# Altium footprint library BGA900.PcbLib: 3 footprints (part 1 of 2)
Each footprint in its own frame and in the unit in brackets; x right, y up, seen from the top. Pads: shape width x height; smd on the part's side, far side on the other; paste and mask are expansions set on the pad; w line width, h text height; cw(c..) or ccw(c..) is an arc to the next point about the centre after c.
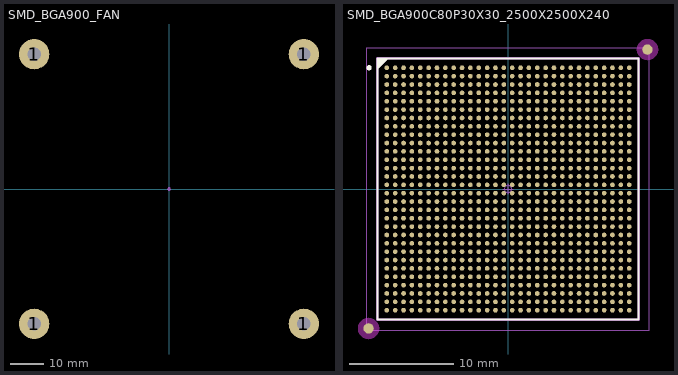
[diagram p0: the footprints below, top view; thin cyan lines are the x and y axes]

## SMD_BGA900_FAN [mm]
pads (4):
  round 9 hole 4: 1(-40,-40) 1(-40,40) 1(40,-40) 1(40,40)
Mechanical 15:
  circle w0.05: c0,0 r0.35
  lines w0.05: -0.5,0 0.5,0 ; 0,-0.5 0,0.5

## SMD_BGA900C80P30X30_2500X2500X240 [mm]
height 2.4
pads (902):
  round 0.45 smd mask+0: A1(-11.6,11.6) A2(-10.8,11.6) A3(-10,11.6) A4(-9.2,11.6) A5(-8.4,11.6) A6(-7.6,11.6) A7(-6.8,11.6) A8(-6,11.6) A9(-5.2,11.6) A10(-4.4,11.6) A11(-3.6,11.6) A12(-2.8,11.6) A13(-2,11.6) A14(-1.2,11.6) A15(-0.4,11.6) A16(0.4,11.6) A17(1.2,11.6) A18(2,11.6) A19(2.8,11.6) A20(3.6,11.6) A21(4.4,11.6) A22(5.2,11.6) A23(6,11.6) A24(6.8,11.6) A25(7.6,11.6) A26(8.4,11.6) A27(9.2,11.6) A28(10,11.6) A29(10.8,11.6) A30(11.6,11.6) AA1(-11.6,-4.4) AA2(-10.8,-4.4) AA3(-10,-4.4) AA4(-9.2,-4.4) AA5(-8.4,-4.4) AA6(-7.6,-4.4) AA7(-6.8,-4.4) AA8(-6,-4.4) AA9(-5.2,-4.4) AA10(-4.4,-4.4) AA11(-3.6,-4.4) AA12(-2.8,-4.4) AA13(-2,-4.4) AA14(-1.2,-4.4) AA15(-0.4,-4.4) AA16(0.4,-4.4) AA17(1.2,-4.4) AA18(2,-4.4) AA19(2.8,-4.4) AA20(3.6,-4.4) AA21(4.4,-4.4) AA22(5.2,-4.4) AA23(6,-4.4) AA24(6.8,-4.4) AA25(7.6,-4.4) AA26(8.4,-4.4) AA27(9.2,-4.4) AA28(10,-4.4) AA29(10.8,-4.4) AA30(11.6,-4.4) AB1(-11.6,-5.2) AB2(-10.8,-5.2) AB3(-10,-5.2) AB4(-9.2,-5.2) AB5(-8.4,-5.2) AB6(-7.6,-5.2) AB7(-6.8,-5.2) AB8(-6,-5.2) AB9(-5.2,-5.2) AB10(-4.4,-5.2) AB11(-3.6,-5.2) AB12(-2.8,-5.2) AB13(-2,-5.2) AB14(-1.2,-5.2) AB15(-0.4,-5.2) AB16(0.4,-5.2) AB17(1.2,-5.2) AB18(2,-5.2) AB19(2.8,-5.2) AB20(3.6,-5.2) AB21(4.4,-5.2) AB22(5.2,-5.2) AB23(6,-5.2) AB24(6.8,-5.2) AB25(7.6,-5.2) AB26(8.4,-5.2) AB27(9.2,-5.2) AB28(10,-5.2) AB29(10.8,-5.2) AB30(11.6,-5.2) AC1(-11.6,-6) AC2(-10.8,-6) AC3(-10,-6) AC4(-9.2,-6) AC5(-8.4,-6) AC6(-7.6,-6) AC7(-6.8,-6) AC8(-6,-6) AC9(-5.2,-6) AC10(-4.4,-6) AC11(-3.6,-6) AC12(-2.8,-6) AC13(-2,-6) AC14(-1.2,-6) AC15(-0.4,-6) AC16(0.4,-6) AC17(1.2,-6) AC18(2,-6) AC19(2.8,-6) AC20(3.6,-6) AC21(4.4,-6) AC22(5.2,-6) AC23(6,-6) AC24(6.8,-6) AC25(7.6,-6) AC26(8.4,-6) AC27(9.2,-6) AC28(10,-6) AC29(10.8,-6) AC30(11.6,-6) AD1(-11.6,-6.8) AD2(-10.8,-6.8) AD3(-10,-6.8) AD4(-9.2,-6.8) AD5(-8.4,-6.8) AD6(-7.6,-6.8) AD7(-6.8,-6.8) AD8(-6,-6.8) AD9(-5.2,-6.8) AD10(-4.4,-6.8) AD11(-3.6,-6.8) AD12(-2.8,-6.8) AD13(-2,-6.8) AD14(-1.2,-6.8) AD15(-0.4,-6.8) AD16(0.4,-6.8) AD17(1.2,-6.8) AD18(2,-6.8) AD19(2.8,-6.8) AD20(3.6,-6.8) AD21(4.4,-6.8) AD22(5.2,-6.8) AD23(6,-6.8) AD24(6.8,-6.8) AD25(7.6,-6.8) AD26(8.4,-6.8) AD27(9.2,-6.8) AD28(10,-6.8) AD29(10.8,-6.8) AD30(11.6,-6.8) AE1(-11.6,-7.6) AE2(-10.8,-7.6) AE3(-10,-7.6) AE4(-9.2,-7.6) AE5(-8.4,-7.6) AE6(-7.6,-7.6) AE7(-6.8,-7.6) AE8(-6,-7.6) AE9(-5.2,-7.6) AE10(-4.4,-7.6) AE11(-3.6,-7.6) AE12(-2.8,-7.6) AE13(-2,-7.6) AE14(-1.2,-7.6) AE15(-0.4,-7.6) AE16(0.4,-7.6) AE17(1.2,-7.6) AE18(2,-7.6) AE19(2.8,-7.6) AE20(3.6,-7.6) AE21(4.4,-7.6) AE22(5.2,-7.6) AE23(6,-7.6) AE24(6.8,-7.6) AE25(7.6,-7.6) AE26(8.4,-7.6) AE27(9.2,-7.6) AE28(10,-7.6) AE29(10.8,-7.6) AE30(11.6,-7.6) AF1(-11.6,-8.4) AF2(-10.8,-8.4) AF3(-10,-8.4) AF4(-9.2,-8.4) AF5(-8.4,-8.4) AF6(-7.6,-8.4) AF7(-6.8,-8.4) AF8(-6,-8.4) AF9(-5.2,-8.4) AF10(-4.4,-8.4) AF11(-3.6,-8.4) AF12(-2.8,-8.4) AF13(-2,-8.4) AF14(-1.2,-8.4) AF15(-0.4,-8.4) AF16(0.4,-8.4) AF17(1.2,-8.4) AF18(2,-8.4) AF19(2.8,-8.4) AF20(3.6,-8.4) AF21(4.4,-8.4) AF22(5.2,-8.4) AF23(6,-8.4) AF24(6.8,-8.4) AF25(7.6,-8.4) AF26(8.4,-8.4) AF27(9.2,-8.4) AF28(10,-8.4) AF29(10.8,-8.4) AF30(11.6,-8.4) AG1(-11.6,-9.2) AG2(-10.8,-9.2) AG3(-10,-9.2) AG4(-9.2,-9.2) AG5(-8.4,-9.2) AG6(-7.6,-9.2) AG7(-6.8,-9.2) AG8(-6,-9.2) AG9(-5.2,-9.2) AG10(-4.4,-9.2) AG11(-3.6,-9.2) AG12(-2.8,-9.2) AG13(-2,-9.2) AG14(-1.2,-9.2) AG15(-0.4,-9.2) AG16(0.4,-9.2) AG17(1.2,-9.2) AG18(2,-9.2) AG19(2.8,-9.2) AG20(3.6,-9.2) AG21(4.4,-9.2) AG22(5.2,-9.2) AG23(6,-9.2) AG24(6.8,-9.2) AG25(7.6,-9.2) AG26(8.4,-9.2) AG27(9.2,-9.2) AG28(10,-9.2) AG29(10.8,-9.2) AG30(11.6,-9.2) AH1(-11.6,-10) AH2(-10.8,-10) AH3(-10,-10) AH4(-9.2,-10) AH5(-8.4,-10) AH6(-7.6,-10) AH7(-6.8,-10) AH8(-6,-10) AH9(-5.2,-10) AH10(-4.4,-10) AH11(-3.6,-10) AH12(-2.8,-10) AH13(-2,-10) AH14(-1.2,-10) AH15(-0.4,-10) AH16(0.4,-10) AH17(1.2,-10) AH18(2,-10) AH19(2.8,-10) AH20(3.6,-10) AH21(4.4,-10) AH22(5.2,-10) AH23(6,-10) AH24(6.8,-10) AH25(7.6,-10) AH26(8.4,-10) AH27(9.2,-10) AH28(10,-10) AH29(10.8,-10) AH30(11.6,-10) AJ1(-11.6,-10.8) AJ2(-10.8,-10.8) AJ3(-10,-10.8) AJ4(-9.2,-10.8) AJ5(-8.4,-10.8) AJ6(-7.6,-10.8) AJ7(-6.8,-10.8) AJ8(-6,-10.8) AJ9(-5.2,-10.8) AJ10(-4.4,-10.8) AJ11(-3.6,-10.8) AJ12(-2.8,-10.8) AJ13(-2,-10.8) AJ14(-1.2,-10.8) AJ15(-0.4,-10.8) AJ16(0.4,-10.8) AJ17(1.2,-10.8) AJ18(2,-10.8) AJ19(2.8,-10.8) AJ20(3.6,-10.8) AJ21(4.4,-10.8) AJ22(5.2,-10.8) AJ23(6,-10.8) AJ24(6.8,-10.8) AJ25(7.6,-10.8) AJ26(8.4,-10.8) AJ27(9.2,-10.8) AJ28(10,-10.8) AJ29(10.8,-10.8) AJ30(11.6,-10.8) AK1(-11.6,-11.6) AK2(-10.8,-11.6) AK3(-10,-11.6) AK4(-9.2,-11.6) AK5(-8.4,-11.6) AK6(-7.6,-11.6) AK7(-6.8,-11.6) AK8(-6,-11.6) AK9(-5.2,-11.6) AK10(-4.4,-11.6) AK11(-3.6,-11.6) AK12(-2.8,-11.6) AK13(-2,-11.6) AK14(-1.2,-11.6) AK15(-0.4,-11.6) AK16(0.4,-11.6) AK17(1.2,-11.6) AK18(2,-11.6) AK19(2.8,-11.6) AK20(3.6,-11.6) AK21(4.4,-11.6) AK22(5.2,-11.6) AK23(6,-11.6) AK24(6.8,-11.6) AK25(7.6,-11.6) AK26(8.4,-11.6) AK27(9.2,-11.6) AK28(10,-11.6) AK29(10.8,-11.6) AK30(11.6,-11.6) B1(-11.6,10.8) B2(-10.8,10.8) B3(-10,10.8) B4(-9.2,10.8) B5(-8.4,10.8) B6(-7.6,10.8) B7(-6.8,10.8) B8(-6,10.8) B9(-5.2,10.8) B10(-4.4,10.8) B11(-3.6,10.8) B12(-2.8,10.8) B13(-2,10.8) B14(-1.2,10.8) B15(-0.4,10.8) B16(0.4,10.8) B17(1.2,10.8) B18(2,10.8) B19(2.8,10.8) B20(3.6,10.8) B21(4.4,10.8) B22(5.2,10.8) B23(6,10.8) B24(6.8,10.8) B25(7.6,10.8) B26(8.4,10.8) B27(9.2,10.8) B28(10,10.8) B29(10.8,10.8) B30(11.6,10.8) C1(-11.6,10) C2(-10.8,10) C3(-10,10) C4(-9.2,10) C5(-8.4,10) C6(-7.6,10) C7(-6.8,10) C8(-6,10) C9(-5.2,10) C10(-4.4,10) C11(-3.6,10) C12(-2.8,10) C13(-2,10) C14(-1.2,10) C15(-0.4,10) C16(0.4,10) C17(1.2,10) C18(2,10) C19(2.8,10) C20(3.6,10) C21(4.4,10) C22(5.2,10) C23(6,10) C24(6.8,10) C25(7.6,10) C26(8.4,10) C27(9.2,10) C28(10,10) C29(10.8,10) C30(11.6,10) D1(-11.6,9.2) D2(-10.8,9.2) D3(-10,9.2) D4(-9.2,9.2) D5(-8.4,9.2) D6(-7.6,9.2) D7(-6.8,9.2) D8(-6,9.2) D9(-5.2,9.2) D10(-4.4,9.2) D11(-3.6,9.2) D12(-2.8,9.2) D13(-2,9.2) D14(-1.2,9.2) D15(-0.4,9.2) D16(0.4,9.2) D17(1.2,9.2) D18(2,9.2) D19(2.8,9.2) D20(3.6,9.2) D21(4.4,9.2) D22(5.2,9.2) D23(6,9.2) D24(6.8,9.2) D25(7.6,9.2) D26(8.4,9.2) D27(9.2,9.2) D28(10,9.2) D29(10.8,9.2) D30(11.6,9.2) E1(-11.6,8.4) E2(-10.8,8.4) E3(-10,8.4) E4(-9.2,8.4) E5(-8.4,8.4) E6(-7.6,8.4) E7(-6.8,8.4) E8(-6,8.4) E9(-5.2,8.4) E10(-4.4,8.4) E11(-3.6,8.4) E12(-2.8,8.4) E13(-2,8.4) E14(-1.2,8.4) E15(-0.4,8.4) E16(0.4,8.4) E17(1.2,8.4) E18(2,8.4) E19(2.8,8.4) E20(3.6,8.4) E21(4.4,8.4) E22(5.2,8.4) E23(6,8.4) E24(6.8,8.4) E25(7.6,8.4) E26(8.4,8.4) E27(9.2,8.4) E28(10,8.4) E29(10.8,8.4) E30(11.6,8.4) F1(-11.6,7.6) F2(-10.8,7.6) F3(-10,7.6) F4(-9.2,7.6) F5(-8.4,7.6) F6(-7.6,7.6) F7(-6.8,7.6) F8(-6,7.6) F9(-5.2,7.6) F10(-4.4,7.6) F11(-3.6,7.6) F12(-2.8,7.6) F13(-2,7.6) F14(-1.2,7.6) F15(-0.4,7.6) F16(0.4,7.6) F17(1.2,7.6) F18(2,7.6) F19(2.8,7.6) F20(3.6,7.6) F21(4.4,7.6) F22(5.2,7.6) F23(6,7.6) F24(6.8,7.6) F25(7.6,7.6) F26(8.4,7.6) F27(9.2,7.6) F28(10,7.6) F29(10.8,7.6) F30(11.6,7.6) G1(-11.6,6.8) G2(-10.8,6.8) G3(-10,6.8) G4(-9.2,6.8) G5(-8.4,6.8) G6(-7.6,6.8) G7(-6.8,6.8) G8(-6,6.8) G9(-5.2,6.8) G10(-4.4,6.8) G11(-3.6,6.8) G12(-2.8,6.8) G13(-2,6.8) G14(-1.2,6.8) G15(-0.4,6.8) G16(0.4,6.8) G17(1.2,6.8) G18(2,6.8) G19(2.8,6.8) G20(3.6,6.8) G21(4.4,6.8) G22(5.2,6.8) G23(6,6.8) G24(6.8,6.8) G25(7.6,6.8) G26(8.4,6.8) G27(9.2,6.8) G28(10,6.8) G29(10.8,6.8) G30(11.6,6.8) H1(-11.6,6) H2(-10.8,6) H3(-10,6) H4(-9.2,6) H5(-8.4,6) H6(-7.6,6) H7(-6.8,6) H8(-6,6) H9(-5.2,6) H10(-4.4,6) H11(-3.6,6) H12(-2.8,6) H13(-2,6) H14(-1.2,6) H15(-0.4,6) H16(0.4,6) H17(1.2,6) H18(2,6) H19(2.8,6) H20(3.6,6) H21(4.4,6) H22(5.2,6) H23(6,6) H24(6.8,6) H25(7.6,6) H26(8.4,6) H27(9.2,6) H28(10,6) H29(10.8,6) H30(11.6,6) J1(-11.6,5.2) J2(-10.8,5.2) J3(-10,5.2) J4(-9.2,5.2) J5(-8.4,5.2) J6(-7.6,5.2) J7(-6.8,5.2) J8(-6,5.2) J9(-5.2,5.2) J10(-4.4,5.2) J11(-3.6,5.2) J12(-2.8,5.2) J13(-2,5.2) J14(-1.2,5.2) J15(-0.4,5.2) J16(0.4,5.2) J17(1.2,5.2) J18(2,5.2) J19(2.8,5.2) J20(3.6,5.2) J21(4.4,5.2) J22(5.2,5.2) J23(6,5.2) J24(6.8,5.2) J25(7.6,5.2) J26(8.4,5.2) J27(9.2,5.2) J28(10,5.2) J29(10.8,5.2) J30(11.6,5.2) K1(-11.6,4.4) K2(-10.8,4.4) K3(-10,4.4) K4(-9.2,4.4) K5(-8.4,4.4) K6(-7.6,4.4) K7(-6.8,4.4) K8(-6,4.4) K9(-5.2,4.4) K10(-4.4,4.4) K11(-3.6,4.4) K12(-2.8,4.4) K13(-2,4.4) K14(-1.2,4.4) K15(-0.4,4.4) K16(0.4,4.4) K17(1.2,4.4) K18(2,4.4) K19(2.8,4.4) K20(3.6,4.4) K21(4.4,4.4) K22(5.2,4.4) K23(6,4.4) K24(6.8,4.4) K25(7.6,4.4) K26(8.4,4.4) K27(9.2,4.4) K28(10,4.4) K29(10.8,4.4) K30(11.6,4.4) L1(-11.6,3.6) L2(-10.8,3.6) L3(-10,3.6) L4(-9.2,3.6) L5(-8.4,3.6) L6(-7.6,3.6) L7(-6.8,3.6) L8(-6,3.6) L9(-5.2,3.6) L10(-4.4,3.6) L11(-3.6,3.6) L12(-2.8,3.6) L13(-2,3.6) L14(-1.2,3.6) L15(-0.4,3.6) L16(0.4,3.6) L17(1.2,3.6) L18(2,3.6) L19(2.8,3.6) L20(3.6,3.6) L21(4.4,3.6) L22(5.2,3.6) L23(6,3.6) L24(6.8,3.6) L25(7.6,3.6) L26(8.4,3.6) L27(9.2,3.6) L28(10,3.6) L29(10.8,3.6) L30(11.6,3.6) M1(-11.6,2.8) M2(-10.8,2.8) M3(-10,2.8) M4(-9.2,2.8) M5(-8.4,2.8) M6(-7.6,2.8) M7(-6.8,2.8) M8(-6,2.8) M9(-5.2,2.8) M10(-4.4,2.8) M11(-3.6,2.8) M12(-2.8,2.8) M13(-2,2.8) M14(-1.2,2.8) M15(-0.4,2.8) M16(0.4,2.8) M17(1.2,2.8) M18(2,2.8) M19(2.8,2.8) M20(3.6,2.8) M21(4.4,2.8) M22(5.2,2.8) M23(6,2.8) M24(6.8,2.8) M25(7.6,2.8) M26(8.4,2.8) M27(9.2,2.8) M28(10,2.8) M29(10.8,2.8) M30(11.6,2.8) N1(-11.6,2) N2(-10.8,2) N3(-10,2) N4(-9.2,2) N5(-8.4,2) N6(-7.6,2) N7(-6.8,2) N8(-6,2) N9(-5.2,2) N10(-4.4,2) N11(-3.6,2) N12(-2.8,2) N13(-2,2) N14(-1.2,2) N15(-0.4,2) N16(0.4,2) N17(1.2,2) N18(2,2) N19(2.8,2) N20(3.6,2) N21(4.4,2) N22(5.2,2) N23(6,2) N24(6.8,2) N25(7.6,2) N26(8.4,2) N27(9.2,2) N28(10,2) N29(10.8,2) N30(11.6,2) P1(-11.6,1.2) P2(-10.8,1.2) P3(-10,1.2) P4(-9.2,1.2) P5(-8.4,1.2) P6(-7.6,1.2) P7(-6.8,1.2) P8(-6,1.2) P9(-5.2,1.2) P10(-4.4,1.2) P11(-3.6,1.2) P12(-2.8,1.2) P13(-2,1.2) P14(-1.2,1.2) P15(-0.4,1.2) P16(0.4,1.2) P17(1.2,1.2) P18(2,1.2) P19(2.8,1.2) P20(3.6,1.2) P21(4.4,1.2) P22(5.2,1.2) P23(6,1.2) P24(6.8,1.2) P25(7.6,1.2) P26(8.4,1.2) P27(9.2,1.2) P28(10,1.2) P29(10.8,1.2) P30(11.6,1.2) R1(-11.6,0.4) R2(-10.8,0.4) R3(-10,0.4) R4(-9.2,0.4) R5(-8.4,0.4) R6(-7.6,0.4) R7(-6.8,0.4) R8(-6,0.4) R9(-5.2,0.4) R10(-4.4,0.4) R11(-3.6,0.4) R12(-2.8,0.4) R13(-2,0.4) R14(-1.2,0.4) R15(-0.4,0.4) R16(0.4,0.4) R17(1.2,0.4) R18(2,0.4) R19(2.8,0.4) R20(3.6,0.4) R21(4.4,0.4) R22(5.2,0.4) R23(6,0.4) R24(6.8,0.4) R25(7.6,0.4) R26(8.4,0.4) R27(9.2,0.4) R28(10,0.4) R29(10.8,0.4) R30(11.6,0.4) T1(-11.6,-0.4) T2(-10.8,-0.4) T3(-10,-0.4) T4(-9.2,-0.4) T5(-8.4,-0.4) T6(-7.6,-0.4) T7(-6.8,-0.4) T8(-6,-0.4) T9(-5.2,-0.4) T10(-4.4,-0.4) T11(-3.6,-0.4) T12(-2.8,-0.4) T13(-2,-0.4) T14(-1.2,-0.4) T15(-0.4,-0.4) T16(0.4,-0.4) T17(1.2,-0.4) T18(2,-0.4) T19(2.8,-0.4) T20(3.6,-0.4) T21(4.4,-0.4) T22(5.2,-0.4) T23(6,-0.4) T24(6.8,-0.4) T25(7.6,-0.4) T26(8.4,-0.4) T27(9.2,-0.4) T28(10,-0.4) T29(10.8,-0.4) T30(11.6,-0.4) U1(-11.6,-1.2) U2(-10.8,-1.2) U3(-10,-1.2) U4(-9.2,-1.2) U5(-8.4,-1.2) U6(-7.6,-1.2) U7(-6.8,-1.2) U8(-6,-1.2) U9(-5.2,-1.2) U10(-4.4,-1.2) U11(-3.6,-1.2) U12(-2.8,-1.2) U13(-2,-1.2) U14(-1.2,-1.2) U15(-0.4,-1.2) U16(0.4,-1.2) U17(1.2,-1.2) U18(2,-1.2) U19(2.8,-1.2) U20(3.6,-1.2) U21(4.4,-1.2) U22(5.2,-1.2) U23(6,-1.2) U24(6.8,-1.2) U25(7.6,-1.2) U26(8.4,-1.2) U27(9.2,-1.2) U28(10,-1.2) U29(10.8,-1.2) U30(11.6,-1.2) V1(-11.6,-2) V2(-10.8,-2) V3(-10,-2) V4(-9.2,-2) V5(-8.4,-2) V6(-7.6,-2) V7(-6.8,-2) V8(-6,-2) V9(-5.2,-2) V10(-4.4,-2) V11(-3.6,-2) V12(-2.8,-2) V13(-2,-2) V14(-1.2,-2) V15(-0.4,-2) V16(0.4,-2) V17(1.2,-2) V18(2,-2) V19(2.8,-2) V20(3.6,-2) V21(4.4,-2) V22(5.2,-2) V23(6,-2) V24(6.8,-2) V25(7.6,-2) V26(8.4,-2) V27(9.2,-2) V28(10,-2) V29(10.8,-2) V30(11.6,-2) W1(-11.6,-2.8) W2(-10.8,-2.8) W3(-10,-2.8) W4(-9.2,-2.8) W5(-8.4,-2.8) W6(-7.6,-2.8) W7(-6.8,-2.8) W8(-6,-2.8) W9(-5.2,-2.8) W10(-4.4,-2.8) W11(-3.6,-2.8) W12(-2.8,-2.8) W13(-2,-2.8) W14(-1.2,-2.8) W15(-0.4,-2.8) W16(0.4,-2.8) W17(1.2,-2.8) W18(2,-2.8) W19(2.8,-2.8) W20(3.6,-2.8) W21(4.4,-2.8) W22(5.2,-2.8) W23(6,-2.8) W24(6.8,-2.8) W25(7.6,-2.8) W26(8.4,-2.8) W27(9.2,-2.8) W28(10,-2.8) W29(10.8,-2.8) W30(11.6,-2.8) Y1(-11.6,-3.6) Y2(-10.8,-3.6) Y3(-10,-3.6) Y4(-9.2,-3.6) Y5(-8.4,-3.6) Y6(-7.6,-3.6) Y7(-6.8,-3.6) Y8(-6,-3.6) Y9(-5.2,-3.6) Y10(-4.4,-3.6) Y11(-3.6,-3.6) Y12(-2.8,-3.6) Y13(-2,-3.6) Y14(-1.2,-3.6) Y15(-0.4,-3.6) Y16(0.4,-3.6) Y17(1.2,-3.6) Y18(2,-3.6) Y19(2.8,-3.6) Y20(3.6,-3.6) Y21(4.4,-3.6) Y22(5.2,-3.6) Y23(6,-3.6) Y24(6.8,-3.6) Y25(7.6,-3.6) Y26(8.4,-3.6) Y27(9.2,-3.6) Y28(10,-3.6) Y29(10.8,-3.6) Y30(11.6,-3.6)
  round 1 smd mask+0.5: FID1(-13.35,-13.35) FID2(13.35,13.35)
Top Layer keep-out:
  region: -12.341,-13.35 -12.376,-13.089 -12.477,-12.846 -12.637,-12.637 -12.846,-12.477 -13.089,-12.376 -13.35,-12.341 -13.611,-12.376 -13.854,-12.477 -14.063,-12.637 -14.223,-12.846 -14.324,-13.089 -14.359,-13.35 -14.324,-13.611 -14.223,-13.854 -14.063,-14.063 -13.854,-14.223 -13.611,-14.324 -13.35,-14.359 -13.089,-14.324 -12.846,-14.223 -12.637,-14.063 -12.477,-13.854 -12.376,-13.611
  region: 14.359,13.35 14.324,13.611 14.223,13.854 14.063,14.063 13.854,14.223 13.611,14.324 13.35,14.359 13.089,14.324 12.846,14.223 12.637,14.063 12.477,13.854 12.376,13.611 12.341,13.35 12.376,13.089 12.477,12.846 12.637,12.637 12.846,12.477 13.089,12.376 13.35,12.341 13.611,12.376 13.854,12.477 14.063,12.637 14.223,12.846 14.324,13.089
Top Overlay:
  circle w0.25: c-13.3,11.6 r0.125
  lines w0.2: -12.5,11.5 -11.5,12.5 ; -12.5,11.7 -11.7,12.5 ; -12.5,11.9 -11.9,12.5 ; -12.5,12.1 -12.1,12.5 ; -12.5,12.3 -12.3,12.5 ; -12.5,-12.5 -12.5,12.5 12.5,12.5 12.5,-12.5 -12.5,-12.5
Top Solder:
  circle w0.25: c-13.3,12.2 r0.125
  lines w0.254: -12.8,-10 -12.8,-12.8 -10,-12.8 ; -12.8,10 -12.8,12.8 -10,12.8 ; 10,-12.8 12.8,-12.8 12.8,-10 ; 10,12.8 12.8,12.8 12.8,10
Mechanical 3:
  lines w0.1: -12.5,11.5 -11.5,12.5 ; -12.5,11.6 -11.6,12.5 ; -12.5,11.7 -11.7,12.5 ; -12.5,11.8 -11.8,12.5 ; -12.5,11.9 -11.9,12.5 ; -12.5,12 -12,12.5 ; -12.5,12.1 -12.1,12.5 ; -12.5,12.2 -12.2,12.5 ; -12.5,12.3 -12.3,12.5 ; -12.5,12.4 -12.4,12.5 ; -12.5,-12.5 -12.5,12.5 12.5,12.5 12.5,-12.5 -12.5,-12.5
Mechanical 13:
  lines w0.05: -12.5,-12.5 -12.5,12.5 12.5,12.5 12.5,-12.5 -12.5,-12.5
  lines w0.254: -12.5,-12.5 -12.5,12.5 12.5,12.5 12.5,-12.5 -12.5,-12.5
Mechanical 15:
  circle w0.05: c0,0 r0.35
  lines w0.05: -0.5,0 0.5,0 ; 0,-0.5 0,0.5 ; -13.5,-13.5 -13.5,13.5 13.5,13.5 13.5,-13.5 -13.5,-13.5
3D body: height 5, standoff 0, extent -12.5,-12.5 12.5,12.5
3D body: height 6, standoff 0, extent -12.5,-12.5 12.5,12.5
3D body: height 5, standoff 0, extent -12.5,-12.5 12.5,12.5